# Altium schematic symbol library FPGA.SchLib: 2 symbols
Pins are listed as number, name and electrical type; pins without a type are passive.

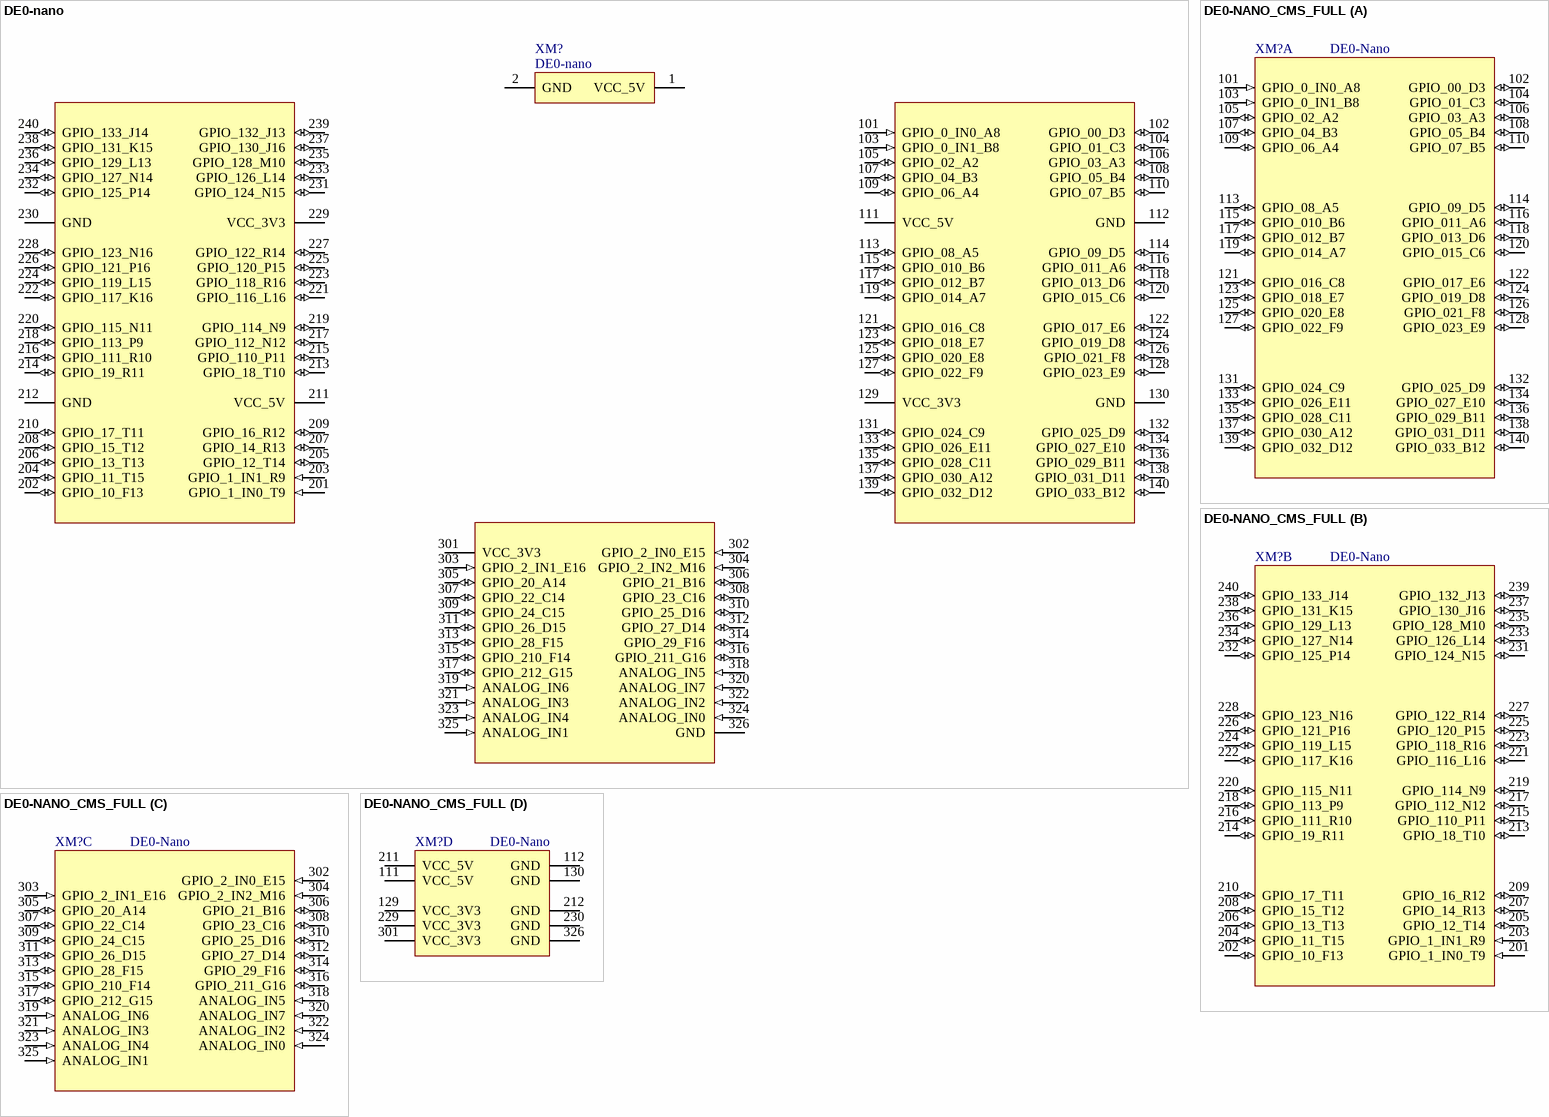
[diagram p0: symbols DE0-nano to DE0-NANO_CMS_FULL]

## DE0-nano
designator XM?
Manufacturer: TERASIC; Manufacturer Part Number: DE0-nano
footprint DE0-NANO
pins: 1 VCC_5V (power), 2 GND (power), 101 GPIO_0_IN0_A8 (in), 102 GPIO_00_D3 (io), 103 GPIO_0_IN1_B8 (in), 104 GPIO_01_C3 (io), 105 GPIO_02_A2 (io), 106 GPIO_03_A3 (io), 107 GPIO_04_B3 (io), 108 GPIO_05_B4 (io), 109 GPIO_06_A4 (io), 110 GPIO_07_B5 (io), 111 VCC_5V (power), 112 GND (power), 113 GPIO_08_A5 (io), 114 GPIO_09_D5 (io), 115 GPIO_010_B6 (io), 116 GPIO_011_A6 (io), 117 GPIO_012_B7 (io), 118 GPIO_013_D6 (io), 119 GPIO_014_A7 (io), 120 GPIO_015_C6 (io), 121 GPIO_016_C8 (io), 122 GPIO_017_E6 (io), 123 GPIO_018_E7 (io), 124 GPIO_019_D8 (io), 125 GPIO_020_E8 (io), 126 GPIO_021_F8 (io), 127 GPIO_022_F9 (io), 128 GPIO_023_E9 (io), 129 VCC_3V3 (power), 130 GND (power), 131 GPIO_024_C9 (io), 132 GPIO_025_D9 (io), 133 GPIO_026_E11 (io), 134 GPIO_027_E10 (io), 135 GPIO_028_C11 (io), 136 GPIO_029_B11 (io), 137 GPIO_030_A12 (io), 138 GPIO_031_D11 (io), 139 GPIO_032_D12 (io), 140 GPIO_033_B12 (io), 201 GPIO_1_IN0_T9 (in), 202 GPIO_10_F13 (io), 203 GPIO_1_IN1_R9 (in), 204 GPIO_11_T15 (io), 205 GPIO_12_T14 (io), 206 GPIO_13_T13 (io), 207 GPIO_14_R13 (io), 208 GPIO_15_T12 (io), 209 GPIO_16_R12 (io), 210 GPIO_17_T11 (io), 211 VCC_5V (power), 212 GND (power), 213 GPIO_18_T10 (io), 214 GPIO_19_R11 (io), 215 GPIO_110_P11 (io), 216 GPIO_111_R10 (io), 217 GPIO_112_N12 (io), 218 GPIO_113_P9 (io), 219 GPIO_114_N9 (io), 220 GPIO_115_N11 (io), 221 GPIO_116_L16 (io), 222 GPIO_117_K16 (io), 223 GPIO_118_R16 (io), 224 GPIO_119_L15 (io), 225 GPIO_120_P15 (io), 226 GPIO_121_P16 (io), 227 GPIO_122_R14 (io), 228 GPIO_123_N16 (io), 229 VCC_3V3 (power), 230 GND (power), 231 GPIO_124_N15 (io), 232 GPIO_125_P14 (io), 233 GPIO_126_L14 (io), 234 GPIO_127_N14 (io), 235 GPIO_128_M10 (io), 236 GPIO_129_L13 (io), 237 GPIO_130_J16 (io), 238 GPIO_131_K15 (io), 239 GPIO_132_J13 (io), 240 GPIO_133_J14 (io), 301 VCC_3V3 (power), 302 GPIO_2_IN0_E15 (in), 303 GPIO_2_IN1_E16 (in), 304 GPIO_2_IN2_M16 (in), 305 GPIO_20_A14 (io), 306 GPIO_21_B16 (io), 307 GPIO_22_C14 (io), 308 GPIO_23_C16 (io), 309 GPIO_24_C15 (io), 310 GPIO_25_D16 (io), 311 GPIO_26_D15 (io), 312 GPIO_27_D14 (io), 313 GPIO_28_F15 (io), 314 GPIO_29_F16 (io), 315 GPIO_210_F14 (io), 316 GPIO_211_G16 (io), 317 GPIO_212_G15 (io), 318 ANALOG_IN5 (in), 319 ANALOG_IN6 (in), 320 ANALOG_IN7 (in), 321 ANALOG_IN3 (in), 322 ANALOG_IN2 (in), 323 ANALOG_IN4 (in), 324 ANALOG_IN0 (in), 325 ANALOG_IN1 (in), 326 GND (power)

## DE0-NANO_CMS_FULL
designator XM?, comment DE0-Nano
carte DE0-Nano modifié pour embase CMS (garde 10mm); Manufacturer: TERASIC; Supplier Part Number 1: 2x 61004021821, 1x 61002621821; Supplier 1: Wurth Elektronik; Manufacturer Part Number: DE0-Nano; ComponentLink1URL: http://www.terasic.com.tw/cgi-bin/page/archive.pl?Language=English&CategoryNo=165&No=593&PartNo=1; ComponentLink1Description: Product page
footprint DE0-NANO_SMT (empreinte pour la DE0 nano CMS seulement (fait avec 1x61032621821 et 2x61034021821))
part A pins: 101 GPIO_0_IN0_A8 (in), 102 GPIO_00_D3 (io), 103 GPIO_0_IN1_B8 (in), 104 GPIO_01_C3 (io), 105 GPIO_02_A2 (io), 106 GPIO_03_A3 (io), 107 GPIO_04_B3 (io), 108 GPIO_05_B4 (io), 109 GPIO_06_A4 (io), 110 GPIO_07_B5 (io), 113 GPIO_08_A5 (io), 114 GPIO_09_D5 (io), 115 GPIO_010_B6 (io), 116 GPIO_011_A6 (io), 117 GPIO_012_B7 (io), 118 GPIO_013_D6 (io), 119 GPIO_014_A7 (io), 120 GPIO_015_C6 (io), 121 GPIO_016_C8 (io), 122 GPIO_017_E6 (io), 123 GPIO_018_E7 (io), 124 GPIO_019_D8 (io), 125 GPIO_020_E8 (io), 126 GPIO_021_F8 (io), 127 GPIO_022_F9 (io), 128 GPIO_023_E9 (io), 131 GPIO_024_C9 (io), 132 GPIO_025_D9 (io), 133 GPIO_026_E11 (io), 134 GPIO_027_E10 (io), 135 GPIO_028_C11 (io), 136 GPIO_029_B11 (io), 137 GPIO_030_A12 (io), 138 GPIO_031_D11 (io), 139 GPIO_032_D12 (io), 140 GPIO_033_B12 (io)
part B pins: 201 GPIO_1_IN0_T9 (in), 202 GPIO_10_F13 (io), 203 GPIO_1_IN1_R9 (in), 204 GPIO_11_T15 (io), 205 GPIO_12_T14 (io), 206 GPIO_13_T13 (io), 207 GPIO_14_R13 (io), 208 GPIO_15_T12 (io), 209 GPIO_16_R12 (io), 210 GPIO_17_T11 (io), 213 GPIO_18_T10 (io), 214 GPIO_19_R11 (io), 215 GPIO_110_P11 (io), 216 GPIO_111_R10 (io), 217 GPIO_112_N12 (io), 218 GPIO_113_P9 (io), 219 GPIO_114_N9 (io), 220 GPIO_115_N11 (io), 221 GPIO_116_L16 (io), 222 GPIO_117_K16 (io), 223 GPIO_118_R16 (io), 224 GPIO_119_L15 (io), 225 GPIO_120_P15 (io), 226 GPIO_121_P16 (io), 227 GPIO_122_R14 (io), 228 GPIO_123_N16 (io), 231 GPIO_124_N15 (io), 232 GPIO_125_P14 (io), 233 GPIO_126_L14 (io), 234 GPIO_127_N14 (io), 235 GPIO_128_M10 (io), 236 GPIO_129_L13 (io), 237 GPIO_130_J16 (io), 238 GPIO_131_K15 (io), 239 GPIO_132_J13 (io), 240 GPIO_133_J14 (io)
part C pins: 302 GPIO_2_IN0_E15 (in), 303 GPIO_2_IN1_E16 (in), 304 GPIO_2_IN2_M16 (in), 305 GPIO_20_A14 (io), 306 GPIO_21_B16 (io), 307 GPIO_22_C14 (io), 308 GPIO_23_C16 (io), 309 GPIO_24_C15 (io), 310 GPIO_25_D16 (io), 311 GPIO_26_D15 (io), 312 GPIO_27_D14 (io), 313 GPIO_28_F15 (io), 314 GPIO_29_F16 (io), 315 GPIO_210_F14 (io), 316 GPIO_211_G16 (io), 317 GPIO_212_G15 (io), 318 ANALOG_IN5 (in), 319 ANALOG_IN6 (in), 320 ANALOG_IN7 (in), 321 ANALOG_IN3 (in), 322 ANALOG_IN2 (in), 323 ANALOG_IN4 (in), 324 ANALOG_IN0 (in), 325 ANALOG_IN1 (in)
part D pins: 111 VCC_5V (power), 112 GND (power), 129 VCC_3V3 (power), 130 GND (power), 211 VCC_5V (power), 212 GND (power), 229 VCC_3V3 (power), 230 GND (power), 301 VCC_3V3 (power), 326 GND (power)